# EAGLE library part WILC1000-MR110PB (library Atmel-WILC1000-MR110PB)
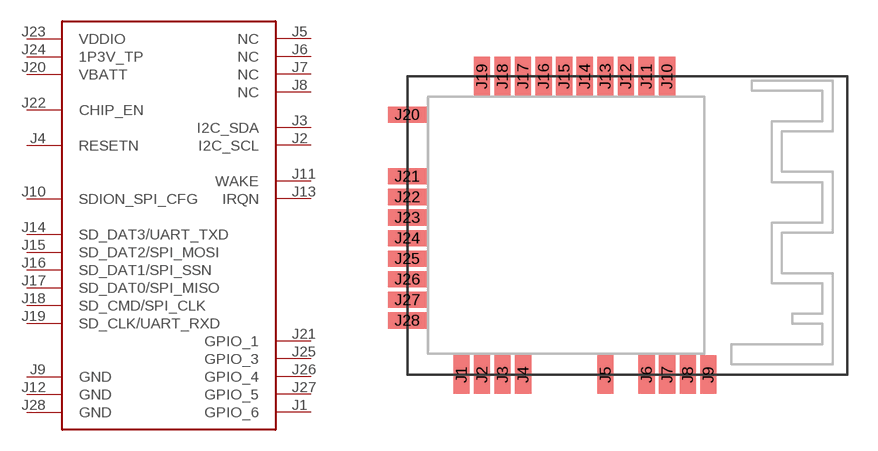
[diagram p0: symbol with the pads of WILC1000-MR110PB; footprint WILC1000-MR110PB]

Designator prefix -

## WILC1000-MR110PB  [WILC1000-MR110PB]
J1  GPIO_6
J2  I2C_SCL
J3  I2C_SDA
J4  RESETN
J5  NC
J6  NC
J7  NC
J8  NC
J9  GND
J10  SDION_SPI_CFG
J11  WAKE
J12  GND
J13  IRQN
J14  SD_DAT3/UART_TXD
J15  SD_DAT2/SPI_MOSI
J16  SD_DAT1/SPI_SSN
J17  SD_DAT0/SPI_MISO
J18  SD_CMD/SPI_CLK
J19  SD_CLK/UART_RXD
J20  VBATT
J21  GPIO_1
J22  CHIP_EN
J23  VDDIO
J24  1P3V_TP
J25  GPIO_3
J26  GPIO_4
J27  GPIO_5
J28  GND

## Footprint WILC1000-MR110PB (pad centres in mm)
smd 0.8 x 1.9: J1 2.67,0; J2 3.686,0; J3 4.702,0; J4 5.718,0; J5 9.782,0; J6 11.814,0; J7 12.83,0; J8 13.846,0; J9 14.862,0; J10 12.824,14.73; J11 11.808,14.73; J12 10.792,14.73; J13 9.776,14.73; J14 8.76,14.73; J15 7.744,14.73; J16 6.728,14.73; J17 5.712,14.73; J18 4.696,14.73; J19 3.68,14.73
smd 1.9 x 0.8: J20 0,12.83; J21 0,9.782; J22 0,8.766; J23 0,7.75; J24 0,6.734; J25 0,5.718; J26 0,4.702; J27 0,3.686; J28 0,2.67